# EAGLE library part RJ45-8L-B (library Transputer)
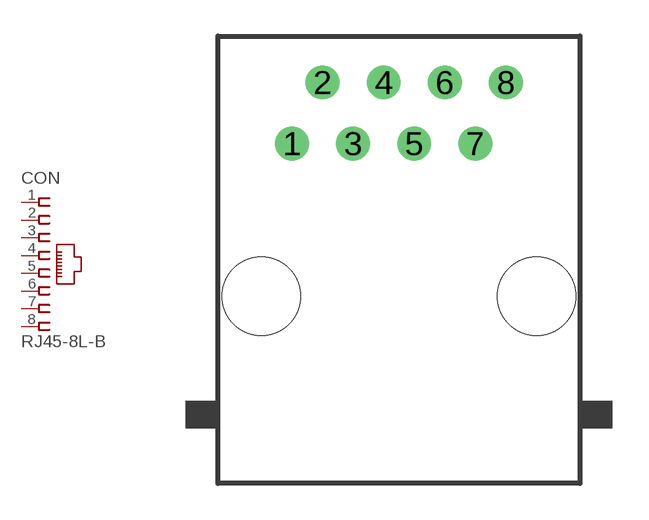
[diagram p11: symbol with the pads of RJ45; footprint RJ45]

Designator prefix CON

## RJ45-8L-B  [RJ45]
1  1  pas
2  2  pas
3  3  pas
4  4  pas
5  5  pas
6  6  pas
7  7  pas
8  8  pas

## Footprint RJ45 (pad centres in mm)
drill 0.9 pad 1.4: 1 -3.175,5.08; 2 -1.905,7.62; 3 -0.635,5.08; 4 0.635,7.62; 5 1.905,5.08; 6 3.175,7.62; 7 4.445,5.08; 8 5.715,7.62
hole 3.251 at -4.445,-1.27
hole 3.251 at 6.985,-1.27